# EAGLE library part 74HC191D (library NXP_By_element14_Batch_1)
Presettable synchronous 4-bit binary up/down counter
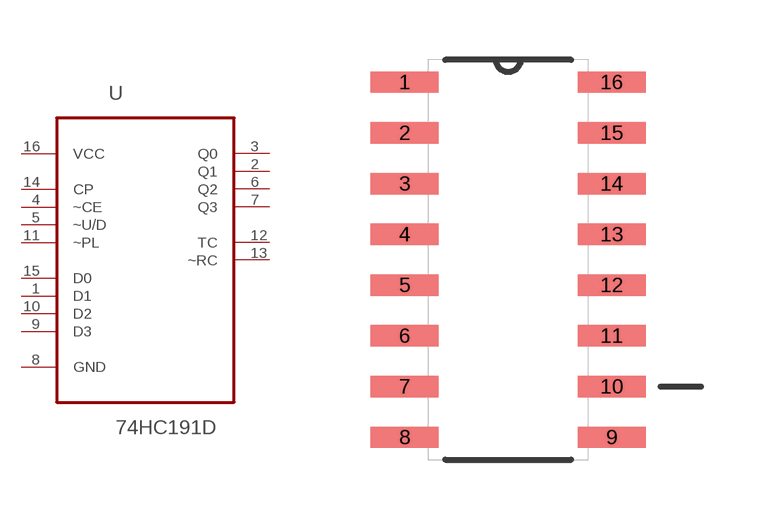
[diagram p52: symbol with the pads of SOIC127P600X175-16N; footprint SOIC127P600X175-16N]

Designator prefix U

## 74HC191D (MPN: 74HC191D; OC_FARNELL: 1211739; OC_NEWARK: 26M7761; P1I: o; PACKAGE: SOIC-16; SUPPLIER: NXP)  [SOIC127P600X175-16N]
1  D1  in
2  Q1  out
3  Q0  out
4  ~CE  in
5  ~U/D  out
6  Q2  out
7  Q3  out
8  GND  pas
9  D3  in
10  D2  in
11  ~PL  in
12  TC  out
13  ~RC  out
14  CP  in
15  D0  in
16  VCC  pwr

## Footprint SOIC127P600X175-16N (pad centres in mm)
smd 1.702 x 0.533: 1 -2.591,4.445; 2 -2.591,3.175; 3 -2.591,1.905; 4 -2.591,0.635; 5 -2.591,-0.635; 6 -2.591,-1.905; 7 -2.591,-3.175; 8 -2.591,-4.445; 9 2.591,-4.445; 10 2.591,-3.175; 11 2.591,-1.905; 12 2.591,-0.635; 13 2.591,0.635; 14 2.591,1.905; 15 2.591,3.175; 16 2.591,4.445